# Altium schematic symbol library lab1.SchLib: 14 symbols
Pins are listed as number, name and electrical type; pins without a type are passive.

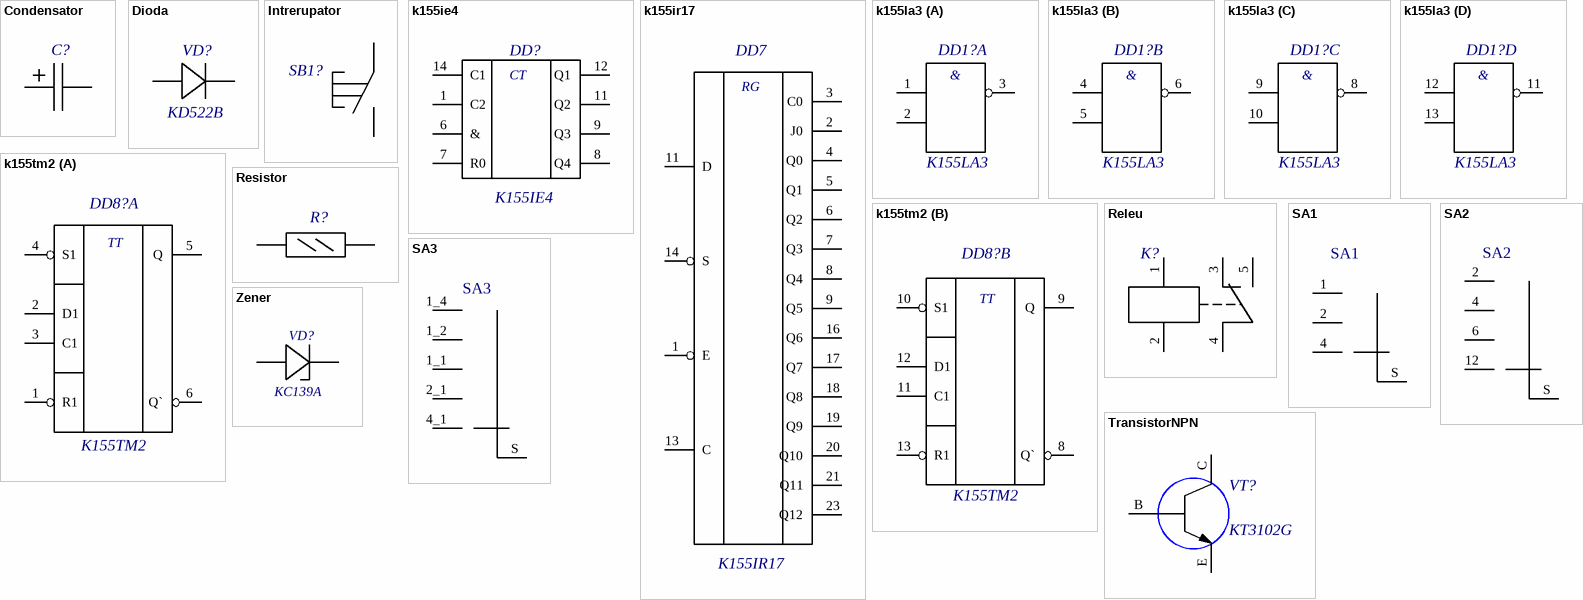
[diagram p0: symbols Condensator to Zener]

## Condensator
designator C?  (value not drawn)
footprint SM127P600-8N
pins: 1, 2

## Dioda
designator VD?, comment KD522B
footprint Dioda (Dioda KD522B)
pins: 1, 2

## Intrerupator
designator SB1?  (value not drawn)
footprint Buton (Pushbutton PTS645)
pins: 1, 2

## k155ie4
designator DD?, comment K155IE4
footprint k155ie4
pins: 1 C2, 6 &, 7 R0, 8 Q4, 9 Q3, 11 Q2, 12 Q1, 14 C1
text: CT

## k155ir17
designator DD7, comment K155IR17
footprint k155ir17
pins: 1 E, 2 J0, 3 C0, 4 Q0, 5 Q1, 6 Q2, 7 Q3, 8 Q4, 9 Q5, 11 D, 13 C, 14 S, 16 Q6, 17 Q7, 18 Q8, 19 Q9, 20 Q10, 21 Q11, 23 Q12
text: RG

## k155la3
designator DD1?, comment K155LA3
footprint k155la3
part A pins: 1, 2, 3
part B pins: 4, 5, 6
part C pins: 8, 9, 10
part D pins: 11, 12, 13
part A text: &
part B text: &
part C text: &
part D text: &

## k155tm2
designator DD8?, comment K155TM2
footprint k155tm2
part A pins: 1 R1, 2 D1, 3 C1, 4 S1, 5 Q, 6 Q`
part B pins: 8 Q`, 9 Q, 10 S1, 11 C1, 12 D1, 13 R1
part A text: TT
part B text: TT

## Releu
designator K?  (value not drawn)
footprint RELAY_SRD-05VDC-SL-C
pins: 1, 2, 3, 4, 5

## Resistor
designator R?  (value not drawn)
footprint RESC3517X06N (Chip Resistor, 2-Leads, Body 3.50x1.70mm, IPC Medium Density)
pins: 1, 2

## SA1
designator SA1, comment 3P1N  (value not drawn)
footprint SA1 (SA1 KLS2 3pins)
pins: 1, 2, 4, S

## SA2
designator SA2, comment 4P1N  (value not drawn)
footprint SA2 (SA1 KLS2 4pins)
pins: 2, 4, 6, 12, S

## SA3
designator SA3, comment 5P1N  (value not drawn)
footprint SA3 (SA1 KLS2 5pins)
pins: 1_1, 1_2, 1_4, 2_1 2:1, 4_1, S

## TransistorNPN
designator VT?, comment KT3102G
footprint Transistor NPN (Transistor KT3102G)
pins: B 1, C 2, E 3

## Zener
designator VD?, comment KC139A
footprint Zener (Dioda Zener KS139A)
pins: 1, 2